# Altium schematic symbol library Codec_board.SchLib: 27 symbols
Pins are listed as number, name and electrical type; pins without a type are passive.

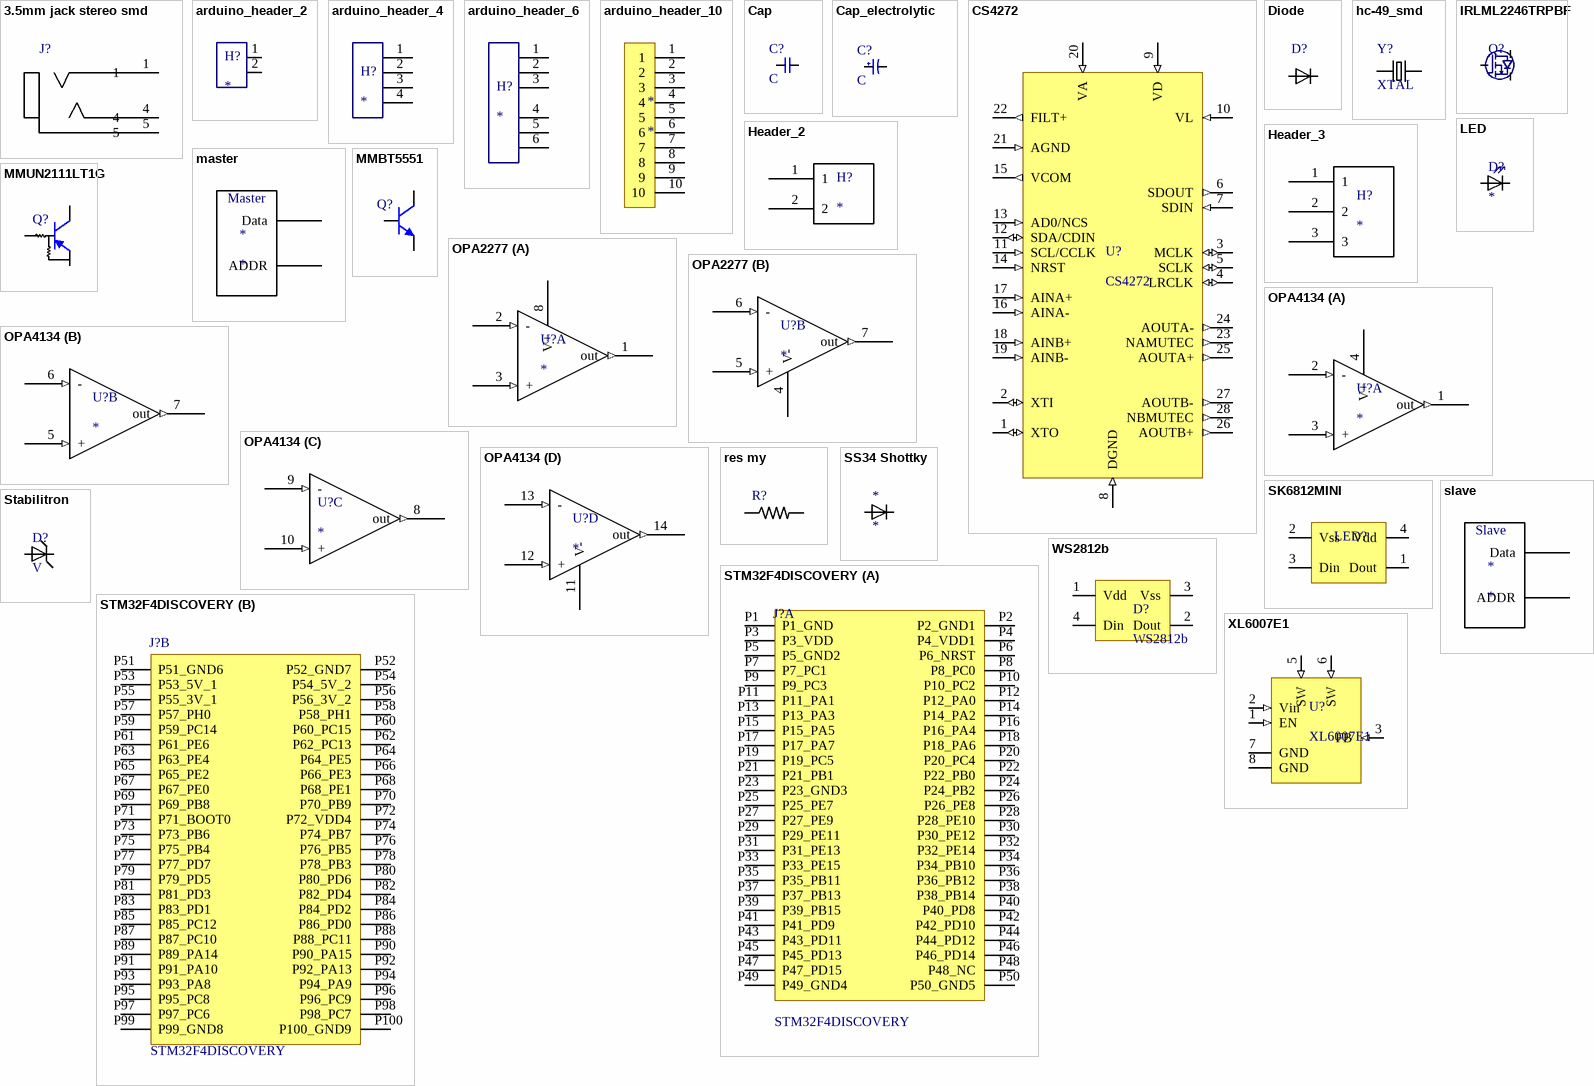
[diagram p0: symbols 3.5mm jack stereo smd to XL6007E1]

## 3.5mm jack stereo smd
designator J?, comment 35RASMT2BHNTRX  (value not drawn)
Conn 3.5MM Stereo Jack F 3 POS Solder RA SMD 3 Terminal 1 Port T/R; MF: Switchcraft; MP: 35RASMT2BHNTRX; Package: None; Price: 0.84 USD; Availability: Good; SnapEDA_Link: https://www.snapeda.com/parts/35RASMT2BHNTRX/Switchcraft%20Inc./view-part/?ref=snap; Value: *
footprint SWITCHCRAFT_35RASMT2BHNTRX
pins: 1, 4, 5

## arduino_header_2
designator H?
footprint header-2_male
footprint header-2_female
pins: 1, 2

## arduino_header_4
designator H?
footprint header-4_male
footprint header-4_female
pins: 1, 2, 3, 4

## arduino_header_6
designator H?
footprint header-6_male
footprint header-6_female
pins: 1, 2, 3, 4, 5, 6

## arduino_header_10
designator *
pins: 1, 2, 3, 4, 5, 6, 7, 8, 9, 10

## Cap
designator C?, comment C
footprint 0805_cap
footprint 1206_cap
pins: 1, 2

## Cap_electrolytic
designator C?, comment C
footprint cap 4x5.4
pins: 1, 2

## CS4272
designator U?
footprint TSSOP-28
pins: 1 XTO (io), 2 XTI (io), 3 MCLK (io), 4 LRCLK (io), 5 SCLK (io), 6 SDOUT (out), 7 SDIN (in), 8 DGND (in), 9 VD (in), 10 VL (in), 11 SCL/CCLK (in), 12 SDA/CDIN (io), 13 AD0/NCS (in), 14 NRST (in), 15 VCOM (out), 16 AINA- (in), 17 AINA+ (in), 18 AINB+ (in), 19 AINB- (in), 20 VA (in), 21 AGND (in), 22 FILT+ (out), 23 NAMUTEC (out), 24 AOUTA- (out), 25 AOUTA+ (out), 26 AOUTB+ (out), 27 AOUTB- (out), 28 NBMUTEC (out)

## Diode
designator D?, comment D  (value not drawn)
MF: ON Semiconductor; MP: LL4148; Package: SOD-80 Taitron; Price: 0.04 USD; Availability: Warning; Value: *
footprint SOD-80 (for diodes)
footprint DO214_2
pins: A, C

## hc-49_smd
designator Y?, comment XTAL
Crystal 4MHz ?30ppm (Tol) ?50ppm (Stability) 20pF FUND 200Ohm 2-Pin HC-49/SDLF SMD T/R; MP: FOXSDLF/040; MF: Fox Electronics; Availability: Good; Price: 0.34 USD; Package: HC49SD Fox Electronics; SnapEDA_Link: https://www.snapeda.com/symbols-footprints/FOXSDLF/040/Fox%20Electronics/view-part/?ref=snap; Value: *
footprint XTAL_hc-49_smd
pins: 1, 2

## Header_2
designator H?
footprint KF301-2P
pins: 1, 2

## Header_3
designator H?
footprint KF301-3P
pins: 1, 2, 3

## IRLML2246TRPBF
designator Q?
P-канал 20В 2.6A, [Micro3 / SOT-23]
pins: d, g, s

## LED
designator D?
footprint 1206
pins: 1, 2

## master
designator *
pins: 0 Data, 1 ADDR
text: Master

## MMBT5551
designator Q?  (value not drawn)
footprint SOT-23
pins: 1 B, 2 E, 3 C

## MMUN2111LT1G
designator Q?  (value not drawn)
footprint SOT-23
pins: 1 B, 2 E, 3 C

## OPA2277
designator U?
footprint SOIC-8
part A pins: 1 out (out), 2 - (in), 3 + (in), 8 V+
part B pins: 4 V-, 5 + (in), 6 - (in), 7 out (out)

## OPA4134
designator U?
footprint SOIC-14
part A pins: 1 out (out), 2 - (in), 3 + (in), 4 V+
part B pins: 5 + (in), 6 - (in), 7 out (out)
part C pins: 8 out (out), 9 - (in), 10 + (in)
part D pins: 11 V-, 12 + (in), 13 - (in), 14 out (out)

## res my
designator R?, comment R  (value not drawn)
RES SMD  1/8W 0805; MF: Yageo; MP: AC0805JR-070RL; Package: 0805 Yageo; Price: 0.01 USD; Availability: Good; Value: *
footprint 1206
footprint 0805
pins: 1, 2

## SK6812MINI
designator LED?  (value not drawn)
NEOPIXEL MINI 3535 RGB
footprint SK6812 3535 SMD
pins: 1 Dout, 2 Vss, 3 Din, 4 Vdd

## slave
designator *
pins: 0 Data, 1 ADDR
text: Slave

## SS34 Shottky
designator *
footprint DO214_2
pins: A, C

## Stabilitron
designator D?, comment V
footprint SOD-80 (for diodes)
pins: A, C

## STM32F4DISCOVERY
designator J?
Development kit: ARM ST; pin strips, pin header; No.of; MF: STMicroelectronics; MP: STM32F4DISCOVERY; Availability: Unavailable; SnapEDA_Link: https://www.snapeda.com/parts/STM32F4DISCOVERY/STMicroelectronics/view-part/?ref=snap; Package: None; Price: None; Value: *
footprint STMICROELECTRONICS_STM32F4DISCOVERY_STM32F4DISCOVERY
part A pins: P1 P1_GND, P2 P2_GND1, P3 P3_VDD, P4 P4_VDD1, P5 P5_GND2, P6 P6_NRST, P7 P7_PC1, P8 P8_PC0, P9 P9_PC3, P10 P10_PC2, P11 P11_PA1, P12 P12_PA0, P13 P13_PA3, P14 P14_PA2, P15 P15_PA5, P16 P16_PA4, P17 P17_PA7, P18 P18_PA6, P19 P19_PC5, P20 P20_PC4, P21 P21_PB1, P22 P22_PB0, P23 P23_GND3, P24 P24_PB2, P25 P25_PE7, P26 P26_PE8, P27 P27_PE9, P28 P28_PE10, P29 P29_PE11, P30 P30_PE12, P31 P31_PE13, P32 P32_PE14, P33 P33_PE15, P34 P34_PB10, P35 P35_PB11, P36 P36_PB12, P37 P37_PB13, P38 P38_PB14, P39 P39_PB15, P40 P40_PD8, P41 P41_PD9, P42 P42_PD10, P43 P43_PD11, P44 P44_PD12, P45 P45_PD13, P46 P46_PD14, P47 P47_PD15, P48 P48_NC, P49 P49_GND4, P50 P50_GND5
part B pins: P51 P51_GND6, P52 P52_GND7, P53 P53_5V_1, P54 P54_5V_2, P55 P55_3V_1, P56 P56_3V_2, P57 P57_PH0, P58 P58_PH1, P59 P59_PC14, P60 P60_PC15, P61 P61_PE6, P62 P62_PC13, P63 P63_PE4, P64 P64_PE5, P65 P65_PE2, P66 P66_PE3, P67 P67_PE0, P68 P68_PE1, P69 P69_PB8, P70 P70_PB9, P71 P71_BOOT0, P72 P72_VDD4, P73 P73_PB6, P74 P74_PB7, P75 P75_PB4, P76 P76_PB5, P77 P77_PD7, P78 P78_PB3, P79 P79_PD5, P80 P80_PD6, P81 P81_PD3, P82 P82_PD4, P83 P83_PD1, P84 P84_PD2, P85 P85_PC12, P86 P86_PD0, P87 P87_PC10, P88 P88_PC11, P89 P89_PA14, P90 P90_PA15, P91 P91_PA10, P92 P92_PA13, P93 P93_PA8, P94 P94_PA9, P95 P95_PC8, P96 P96_PC9, P97 P97_PC6, P98 P98_PC7, P99 P99_GND8, P100 P100_GND9

## WS2812b
designator D?
RGB digital LED 5050 SMD
footprint WS2812B 5050SMD
pins: 1 Vdd, 2 Dout, 3 Vss, 4 Din

## XL6007E1
designator U?
DC-DC
footprint SOIC-8
pins: 1 EN (in), 2 Vin (in), 3 FB (in), 5 SW (in), 6 SW (in), 7 GND, 8 GND